# EAGLE library part DSPIC33EP512MC806 (library Gibbot)
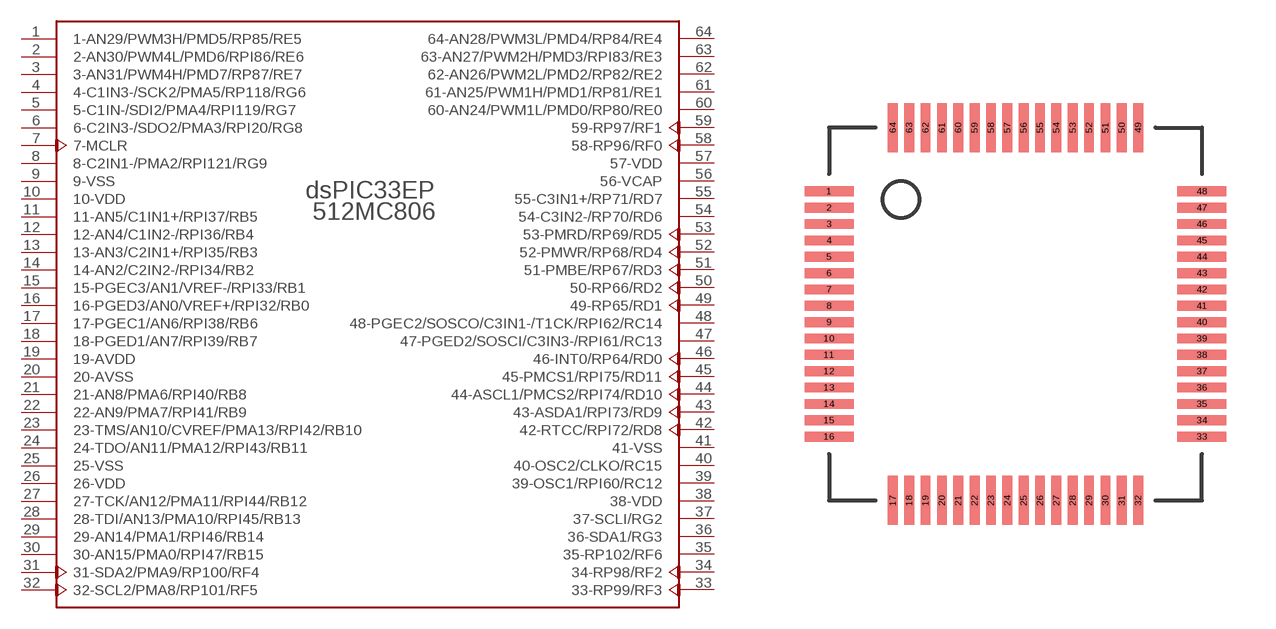
[diagram p5: symbol with the pads of TQFP64_10X10; footprint TQFP64_10X10]

Designator prefix -

## DSPIC33EP512MC806  [TQFP64_10X10]
1  1-AN29/PWM3H/PMD5/RP85/RE5
2  2-AN30/PWM4L/PMD6/RPI86/RE6
3  3-AN31/PWM4H/PMD7/RP87/RE7
4  4-C1IN3-/SCK2/PMA5/RP118/RG6
5  5-C1IN-/SDI2/PMA4/RPI119/RG7
6  6-C2IN3-/SDO2/PMA3/RPI20/RG8
7  7-MCLR
8  8-C2IN1-/PMA2/RPI121/RG9
9  9-VSS
10  10-VDD
11  11-AN5/C1IN1+/RPI37/RB5
12  12-AN4/C1IN2-/RPI36/RB4
13  13-AN3/C2IN1+/RPI35/RB3
14  14-AN2/C2IN2-/RPI34/RB2
15  15-PGEC3/AN1/VREF-/RPI33/RB1
16  16-PGED3/AN0/VREF+/RPI32/RB0
17  17-PGEC1/AN6/RPI38/RB6
18  18-PGED1/AN7/RPI39/RB7
19  19-AVDD
20  20-AVSS
21  21-AN8/PMA6/RPI40/RB8
22  22-AN9/PMA7/RPI41/RB9
23  23-TMS/AN10/CVREF/PMA13/RPI42/RB10
24  24-TDO/AN11/PMA12/RPI43/RB11
25  25-VSS
26  26-VDD
27  27-TCK/AN12/PMA11/RPI44/RB12
28  28-TDI/AN13/PMA10/RPI45/RB13
29  29-AN14/PMA1/RPI46/RB14
30  30-AN15/PMA0/RPI47/RB15
31  31-SDA2/PMA9/RP100/RF4
32  32-SCL2/PMA8/RP101/RF5
33  33-RP99/RF3
34  34-RP98/RF2
35  35-RP102/RF6
36  36-SDA1/RG3
37  37-SCLI/RG2
38  38-VDD
39  39-OSC1/RPI60/RC12
40  40-OSC2/CLKO/RC15
41  41-VSS
42  42-RTCC/RPI72/RD8
43  43-ASDA1/RPI73/RD9
44  44-ASCL1/PMCS2/RPI74/RD10
45  45-PMCS1/RPI75/RD11
46  46-INT0/RP64/RD0
47  47-PGED2/SOSCI/C3IN3-/RPI61/RC13
48  48-PGEC2/SOSCO/C3IN1-/T1CK/RPI62/RC14
49  49-RP65/RD1
50  50-RP66/RD2
51  51-PMBE/RP67/RD3
52  52-PMWR/RP68/RD4
53  53-PMRD/RP69/RD5
54  54-C3IN2-/RP70/RD6
55  55-C3IN1+/RP71/RD7
56  56-VCAP
57  57-VDD
58  58-RP96/RF0
59  59-RP97/RF1
60  60-AN24/PWM1L/PMD0/RP80/RE0
61  61-AN25/PWM1H/PMD1/RP81/RE1
62  62-AN26/PWM2L/PMD2/RP82/RE2
63  63-AN27/PWM2H/PMD3/RPI83/RE3
64  64-AN28/PWM3L/PMD4/RP84/RE4

## Footprint TQFP64_10X10 (pad centres in mm)
smd 1.5 x 0.3: 1 -5.7,3.75; 2 -5.7,3.25; 3 -5.7,2.75; 4 -5.7,2.25; 5 -5.7,1.75; 6 -5.7,1.25; 7 -5.7,0.75; 8 -5.7,0.25; 9 -5.7,-0.25; 10 -5.7,-0.75; 11 -5.7,-1.25; 12 -5.7,-1.75; 13 -5.7,-2.25; 14 -5.7,-2.75; 15 -5.7,-3.25; 16 -5.7,-3.75; 33 5.7,-3.75; 34 5.7,-3.25; 35 5.7,-2.75; 36 5.7,-2.25; 37 5.7,-1.75; 38 5.7,-1.25; 39 5.7,-0.75; 40 5.7,-0.25; 41 5.7,0.25; 42 5.7,0.75; 43 5.7,1.25; 44 5.7,1.75; 45 5.7,2.25; 46 5.7,2.75; 47 5.7,3.25; 48 5.7,3.75
smd 0.3 x 1.5: 17 -3.75,-5.7; 18 -3.25,-5.7; 19 -2.75,-5.7; 20 -2.25,-5.7; 21 -1.75,-5.7; 22 -1.25,-5.7; 23 -0.75,-5.7; 24 -0.25,-5.7; 25 0.25,-5.7; 26 0.75,-5.7; 27 1.25,-5.7; 28 1.75,-5.7; 29 2.25,-5.7; 30 2.75,-5.7; 31 3.25,-5.7; 32 3.75,-5.7; 49 3.75,5.7; 50 3.25,5.7; 51 2.75,5.7; 52 2.25,5.7; 53 1.75,5.7; 54 1.25,5.7; 55 0.75,5.7; 56 0.25,5.7; 57 -0.25,5.7; 58 -0.75,5.7; 59 -1.25,5.7; 60 -1.75,5.7; 61 -2.25,5.7; 62 -2.75,5.7; 63 -3.25,5.7; 64 -3.75,5.7